# Altium integrated library ST Memory EEPROM Flash.IntLib: 1183 symbols (part 29 of 29)
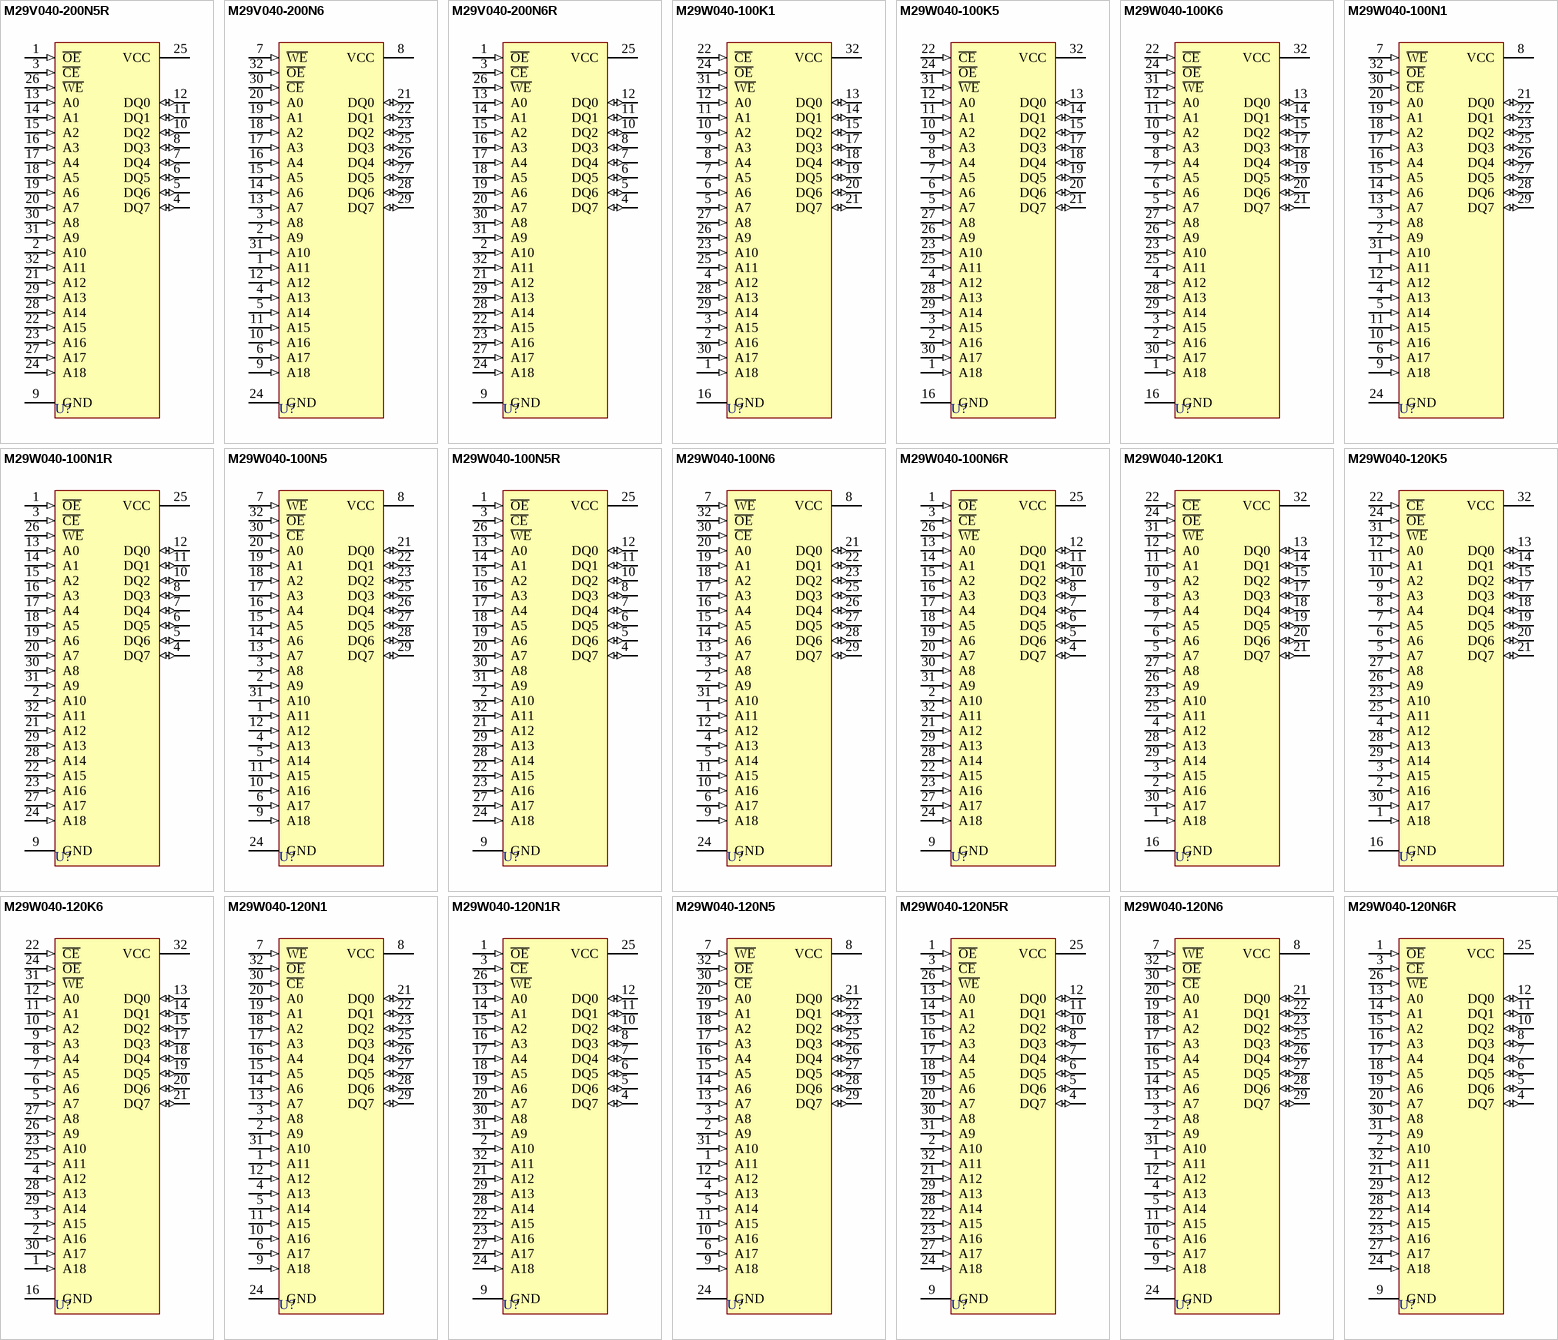
[diagram p109: symbols M29V040-200N5R to M29W040-120N6R]

## M29V040-200N6
designator U?
Low-Voltage Single Supply 4 Mbit (512Kb x8, Sector Erase) Flash Memory; Published: 24-Aug-2001; LatestRevisionDate: 06-Jun-2005; LatestRevisionNote: Stylized 3D Model Added.; DatasheetVersion: Mar-1996; PackageVersion: Mar-1999; PackageReference: TSOP32; Publisher: Altium Limited; PackageDescription: Shrink Small Outline, Plastic, Thin; 32 Leads; Body Width 18.4 mm; Pitch 0.5 mm; Code_JEDEC: MO-142-BD; ComponentLink1Description: Manufacturer Link; ComponentLink1URL: http://www.st.com/
footprint TSOP32 (Shrink Small Outline, Plastic, Thin; 32 Leads; Body Width 18.4 mm; Pitch 0.5 mm)
3D model TSOP32 (Shrink Small Outline, Plastic, Thin; 32 Leads; Body Width 18.4 mm; Pitch 0.5 mm)
pins: 1 A11 (in), 2 A9 (in), 3 A8 (in), 4 A13 (in), 5 A14 (in), 6 A17 (in), 7 ~{WE} (in), 8 VCC (power), 9 A18 (in), 10 A16 (in), 11 A15 (in), 12 A12 (in), 13 A7 (in), 14 A6 (in), 15 A5 (in), 16 A4 (in), 17 A3 (in), 18 A2 (in), 19 A1 (in), 20 A0 (in), 21 DQ0 (io), 22 DQ1 (io), 23 DQ2 (io), 24 GND (power), 25 DQ3 (io), 26 DQ4 (io), 27 DQ5 (io), 28 DQ6 (io), 29 DQ7 (io), 30 ~{CE} (in), 31 A10 (in), 32 ~{OE} (in)

## M29V040-200N6R
designator U?
Low-Voltage Single Supply 4 Mbit (512Kb x8, Sector Erase) Flash Memory; Published: 24-Aug-2001; LatestRevisionDate: 06-Jun-2005; LatestRevisionNote: Stylized 3D Model Added.; DatasheetVersion: Mar-1996; PackageVersion: Mar-1999; PackageReference: TSOP32; Publisher: Altium Limited; PackageDescription: Shrink Small Outline, Plastic, Thin; 32 Leads; Body Width 18.4 mm; Pitch 0.5 mm; Code_JEDEC: MO-142-BD; ComponentLink1Description: Manufacturer Link; ComponentLink1URL: http://www.st.com/
footprint TSOP32 (Shrink Small Outline, Plastic, Thin; 32 Leads; Body Width 18.4 mm; Pitch 0.5 mm)
3D model TSOP32 (Shrink Small Outline, Plastic, Thin; 32 Leads; Body Width 18.4 mm; Pitch 0.5 mm)
pins: 1 ~{OE} (in), 2 A10 (in), 3 ~{CE} (in), 4 DQ7 (io), 5 DQ6 (io), 6 DQ5 (io), 7 DQ4 (io), 8 DQ3 (io), 9 GND (power), 10 DQ2 (io), 11 DQ1 (io), 12 DQ0 (io), 13 A0 (in), 14 A1 (in), 15 A2 (in), 16 A3 (in), 17 A4 (in), 18 A5 (in), 19 A6 (in), 20 A7 (in), 21 A12 (in), 22 A15 (in), 23 A16 (in), 24 A18 (in), 25 VCC (power), 26 ~{WE} (in), 27 A17 (in), 28 A14 (in), 29 A13 (in), 30 A8 (in), 31 A9 (in), 32 A11 (in)

## M29W040-100K1
designator U?
4 Mbit (512Kb x8, Uniform Block) Low-Voltage Single Supply Flash Memory; Published: 24-Aug-2001; LatestRevisionDate: 06-Jun-2005; LatestRevisionNote: Stylized 3D Model Added.; DatasheetVersion: Nov-1999; PackageVersion: Jun-1998; PackageReference: PLCC32; Publisher: Altium Limited; PackageDescription: Leaded Chip Carrier; 32 Leads; Body 11.5 x 14 mm; Code_JEDEC: MS-016-AE; Code_IPC: PLCC/R-32; ComponentLink1Description: Manufacturer Link; ComponentLink1URL: http://www.st.com/
footprint PLCC32 (Leaded Chip Carrier; 32 Leads; Body 11.5 x 14 mm)
3D model M29W040-PLCC32 (Leaded Chip Carrier; 32 Leads; Body 11.5 x 14 mm)
pins: 1 A18 (in), 2 A16 (in), 3 A15 (in), 4 A12 (in), 5 A7 (in), 6 A6 (in), 7 A5 (in), 8 A4 (in), 9 A3 (in), 10 A2 (in), 11 A1 (in), 12 A0 (in), 13 DQ0 (io), 14 DQ1 (io), 15 DQ2 (io), 16 GND (power), 17 DQ3 (io), 18 DQ4 (io), 19 DQ5 (io), 20 DQ6 (io), 21 DQ7 (io), 22 ~{CE} (in), 23 A10 (in), 24 ~{OE} (in), 25 A11 (in), 26 A9 (in), 27 A8 (in), 28 A13 (in), 29 A14 (in), 30 A17 (in), 31 ~{WE} (in), 32 VCC (power)

## M29W040-100K5
designator U?
4 Mbit (512Kb x8, Uniform Block) Low-Voltage Single Supply Flash Memory; Published: 24-Aug-2001; LatestRevisionDate: 06-Jun-2005; LatestRevisionNote: Stylized 3D Model Added.; DatasheetVersion: Nov-1999; PackageVersion: Jun-1998; PackageReference: PLCC32; Publisher: Altium Limited; PackageDescription: Leaded Chip Carrier; 32 Leads; Body 11.5 x 14 mm; Code_JEDEC: MS-016-AE; Code_IPC: PLCC/R-32; ComponentLink1Description: Manufacturer Link; ComponentLink1URL: http://www.st.com/
footprint PLCC32 (Leaded Chip Carrier; 32 Leads; Body 11.5 x 14 mm)
3D model M29W040-PLCC32 (Leaded Chip Carrier; 32 Leads; Body 11.5 x 14 mm)
pins: 1 A18 (in), 2 A16 (in), 3 A15 (in), 4 A12 (in), 5 A7 (in), 6 A6 (in), 7 A5 (in), 8 A4 (in), 9 A3 (in), 10 A2 (in), 11 A1 (in), 12 A0 (in), 13 DQ0 (io), 14 DQ1 (io), 15 DQ2 (io), 16 GND (power), 17 DQ3 (io), 18 DQ4 (io), 19 DQ5 (io), 20 DQ6 (io), 21 DQ7 (io), 22 ~{CE} (in), 23 A10 (in), 24 ~{OE} (in), 25 A11 (in), 26 A9 (in), 27 A8 (in), 28 A13 (in), 29 A14 (in), 30 A17 (in), 31 ~{WE} (in), 32 VCC (power)

## M29W040-100K6
designator U?
4 Mbit (512Kb x8, Uniform Block) Low-Voltage Single Supply Flash Memory; Published: 24-Aug-2001; LatestRevisionDate: 06-Jun-2005; LatestRevisionNote: Stylized 3D Model Added.; DatasheetVersion: Nov-1999; PackageVersion: Jun-1998; PackageReference: PLCC32; Publisher: Altium Limited; PackageDescription: Leaded Chip Carrier; 32 Leads; Body 11.5 x 14 mm; Code_JEDEC: MS-016-AE; Code_IPC: PLCC/R-32; ComponentLink1Description: Manufacturer Link; ComponentLink1URL: http://www.st.com/
footprint PLCC32 (Leaded Chip Carrier; 32 Leads; Body 11.5 x 14 mm)
3D model M29W040-PLCC32 (Leaded Chip Carrier; 32 Leads; Body 11.5 x 14 mm)
pins: 1 A18 (in), 2 A16 (in), 3 A15 (in), 4 A12 (in), 5 A7 (in), 6 A6 (in), 7 A5 (in), 8 A4 (in), 9 A3 (in), 10 A2 (in), 11 A1 (in), 12 A0 (in), 13 DQ0 (io), 14 DQ1 (io), 15 DQ2 (io), 16 GND (power), 17 DQ3 (io), 18 DQ4 (io), 19 DQ5 (io), 20 DQ6 (io), 21 DQ7 (io), 22 ~{CE} (in), 23 A10 (in), 24 ~{OE} (in), 25 A11 (in), 26 A9 (in), 27 A8 (in), 28 A13 (in), 29 A14 (in), 30 A17 (in), 31 ~{WE} (in), 32 VCC (power)

## M29W040-100N1
designator U?
4 Mbit (512Kb x8, Uniform Block) Low-Voltage Single Supply Flash Memory; Published: 24-Aug-2001; LatestRevisionDate: 06-Jun-2005; LatestRevisionNote: Stylized 3D Model Added.; DatasheetVersion: Nov-1999; PackageVersion: Mar-1999; PackageReference: TSOP32; Publisher: Altium Limited; PackageDescription: Shrink Small Outline, Plastic, Thin; 32 Leads; Body Width 18.4 mm; Pitch 0.5 mm; Code_JEDEC: MO-142-BD; ComponentLink1Description: Manufacturer Link; ComponentLink1URL: http://www.st.com/
footprint TSOP32 (Shrink Small Outline, Plastic, Thin; 32 Leads; Body Width 18.4 mm; Pitch 0.5 mm)
3D model TSOP32 (Shrink Small Outline, Plastic, Thin; 32 Leads; Body Width 18.4 mm; Pitch 0.5 mm)
pins: 1 A11 (in), 2 A9 (in), 3 A8 (in), 4 A13 (in), 5 A14 (in), 6 A17 (in), 7 ~{WE} (in), 8 VCC (power), 9 A18 (in), 10 A16 (in), 11 A15 (in), 12 A12 (in), 13 A7 (in), 14 A6 (in), 15 A5 (in), 16 A4 (in), 17 A3 (in), 18 A2 (in), 19 A1 (in), 20 A0 (in), 21 DQ0 (io), 22 DQ1 (io), 23 DQ2 (io), 24 GND (power), 25 DQ3 (io), 26 DQ4 (io), 27 DQ5 (io), 28 DQ6 (io), 29 DQ7 (io), 30 ~{CE} (in), 31 A10 (in), 32 ~{OE} (in)

## M29W040-100N1R
designator U?
4 Mbit (512Kb x8, Uniform Block) Low-Voltage Single Supply Flash Memory; Published: 24-Aug-2001; LatestRevisionDate: 06-Jun-2005; LatestRevisionNote: Stylized 3D Model Added.; DatasheetVersion: Nov-1999; PackageVersion: Mar-1999; PackageReference: TSOP32; Publisher: Altium Limited; PackageDescription: Shrink Small Outline, Plastic, Thin; 32 Leads; Body Width 18.4 mm; Pitch 0.5 mm; Code_JEDEC: MO-142-BD; ComponentLink1Description: Manufacturer Link; ComponentLink1URL: http://www.st.com/
footprint TSOP32 (Shrink Small Outline, Plastic, Thin; 32 Leads; Body Width 18.4 mm; Pitch 0.5 mm)
3D model TSOP32 (Shrink Small Outline, Plastic, Thin; 32 Leads; Body Width 18.4 mm; Pitch 0.5 mm)
pins: 1 ~{OE} (in), 2 A10 (in), 3 ~{CE} (in), 4 DQ7 (io), 5 DQ6 (io), 6 DQ5 (io), 7 DQ4 (io), 8 DQ3 (io), 9 GND (power), 10 DQ2 (io), 11 DQ1 (io), 12 DQ0 (io), 13 A0 (in), 14 A1 (in), 15 A2 (in), 16 A3 (in), 17 A4 (in), 18 A5 (in), 19 A6 (in), 20 A7 (in), 21 A12 (in), 22 A15 (in), 23 A16 (in), 24 A18 (in), 25 VCC (power), 26 ~{WE} (in), 27 A17 (in), 28 A14 (in), 29 A13 (in), 30 A8 (in), 31 A9 (in), 32 A11 (in)

## M29W040-100N5
designator U?
4 Mbit (512Kb x8, Uniform Block) Low-Voltage Single Supply Flash Memory; Published: 24-Aug-2001; LatestRevisionDate: 06-Jun-2005; LatestRevisionNote: Stylized 3D Model Added.; DatasheetVersion: Nov-1999; PackageVersion: Mar-1999; PackageReference: TSOP32; Publisher: Altium Limited; PackageDescription: Shrink Small Outline, Plastic, Thin; 32 Leads; Body Width 18.4 mm; Pitch 0.5 mm; Code_JEDEC: MO-142-BD; ComponentLink1Description: Manufacturer Link; ComponentLink1URL: http://www.st.com/
footprint TSOP32 (Shrink Small Outline, Plastic, Thin; 32 Leads; Body Width 18.4 mm; Pitch 0.5 mm)
3D model TSOP32 (Shrink Small Outline, Plastic, Thin; 32 Leads; Body Width 18.4 mm; Pitch 0.5 mm)
pins: 1 A11 (in), 2 A9 (in), 3 A8 (in), 4 A13 (in), 5 A14 (in), 6 A17 (in), 7 ~{WE} (in), 8 VCC (power), 9 A18 (in), 10 A16 (in), 11 A15 (in), 12 A12 (in), 13 A7 (in), 14 A6 (in), 15 A5 (in), 16 A4 (in), 17 A3 (in), 18 A2 (in), 19 A1 (in), 20 A0 (in), 21 DQ0 (io), 22 DQ1 (io), 23 DQ2 (io), 24 GND (power), 25 DQ3 (io), 26 DQ4 (io), 27 DQ5 (io), 28 DQ6 (io), 29 DQ7 (io), 30 ~{CE} (in), 31 A10 (in), 32 ~{OE} (in)

## M29W040-100N5R
designator U?
4 Mbit (512Kb x8, Uniform Block) Low-Voltage Single Supply Flash Memory; Published: 24-Aug-2001; LatestRevisionDate: 06-Jun-2005; LatestRevisionNote: Stylized 3D Model Added.; DatasheetVersion: Nov-1999; PackageVersion: Mar-1999; PackageReference: TSOP32; Publisher: Altium Limited; PackageDescription: Shrink Small Outline, Plastic, Thin; 32 Leads; Body Width 18.4 mm; Pitch 0.5 mm; Code_JEDEC: MO-142-BD; ComponentLink1Description: Manufacturer Link; ComponentLink1URL: http://www.st.com/
footprint TSOP32 (Shrink Small Outline, Plastic, Thin; 32 Leads; Body Width 18.4 mm; Pitch 0.5 mm)
3D model TSOP32 (Shrink Small Outline, Plastic, Thin; 32 Leads; Body Width 18.4 mm; Pitch 0.5 mm)
pins: 1 ~{OE} (in), 2 A10 (in), 3 ~{CE} (in), 4 DQ7 (io), 5 DQ6 (io), 6 DQ5 (io), 7 DQ4 (io), 8 DQ3 (io), 9 GND (power), 10 DQ2 (io), 11 DQ1 (io), 12 DQ0 (io), 13 A0 (in), 14 A1 (in), 15 A2 (in), 16 A3 (in), 17 A4 (in), 18 A5 (in), 19 A6 (in), 20 A7 (in), 21 A12 (in), 22 A15 (in), 23 A16 (in), 24 A18 (in), 25 VCC (power), 26 ~{WE} (in), 27 A17 (in), 28 A14 (in), 29 A13 (in), 30 A8 (in), 31 A9 (in), 32 A11 (in)

## M29W040-100N6
designator U?
4 Mbit (512Kb x8, Uniform Block) Low-Voltage Single Supply Flash Memory; Published: 24-Aug-2001; LatestRevisionDate: 06-Jun-2005; LatestRevisionNote: Stylized 3D Model Added.; DatasheetVersion: Nov-1999; PackageVersion: Mar-1999; PackageReference: TSOP32; Publisher: Altium Limited; PackageDescription: Shrink Small Outline, Plastic, Thin; 32 Leads; Body Width 18.4 mm; Pitch 0.5 mm; Code_JEDEC: MO-142-BD; ComponentLink1Description: Manufacturer Link; ComponentLink1URL: http://www.st.com/
footprint TSOP32 (Shrink Small Outline, Plastic, Thin; 32 Leads; Body Width 18.4 mm; Pitch 0.5 mm)
3D model TSOP32 (Shrink Small Outline, Plastic, Thin; 32 Leads; Body Width 18.4 mm; Pitch 0.5 mm)
pins: 1 A11 (in), 2 A9 (in), 3 A8 (in), 4 A13 (in), 5 A14 (in), 6 A17 (in), 7 ~{WE} (in), 8 VCC (power), 9 A18 (in), 10 A16 (in), 11 A15 (in), 12 A12 (in), 13 A7 (in), 14 A6 (in), 15 A5 (in), 16 A4 (in), 17 A3 (in), 18 A2 (in), 19 A1 (in), 20 A0 (in), 21 DQ0 (io), 22 DQ1 (io), 23 DQ2 (io), 24 GND (power), 25 DQ3 (io), 26 DQ4 (io), 27 DQ5 (io), 28 DQ6 (io), 29 DQ7 (io), 30 ~{CE} (in), 31 A10 (in), 32 ~{OE} (in)

## M29W040-100N6R
designator U?
4 Mbit (512Kb x8, Uniform Block) Low-Voltage Single Supply Flash Memory; Published: 24-Aug-2001; LatestRevisionDate: 06-Jun-2005; LatestRevisionNote: Stylized 3D Model Added.; DatasheetVersion: Nov-1999; PackageVersion: Mar-1999; PackageReference: TSOP32; Publisher: Altium Limited; PackageDescription: Shrink Small Outline, Plastic, Thin; 32 Leads; Body Width 18.4 mm; Pitch 0.5 mm; Code_JEDEC: MO-142-BD; ComponentLink1Description: Manufacturer Link; ComponentLink1URL: http://www.st.com/
footprint TSOP32 (Shrink Small Outline, Plastic, Thin; 32 Leads; Body Width 18.4 mm; Pitch 0.5 mm)
3D model TSOP32 (Shrink Small Outline, Plastic, Thin; 32 Leads; Body Width 18.4 mm; Pitch 0.5 mm)
pins: 1 ~{OE} (in), 2 A10 (in), 3 ~{CE} (in), 4 DQ7 (io), 5 DQ6 (io), 6 DQ5 (io), 7 DQ4 (io), 8 DQ3 (io), 9 GND (power), 10 DQ2 (io), 11 DQ1 (io), 12 DQ0 (io), 13 A0 (in), 14 A1 (in), 15 A2 (in), 16 A3 (in), 17 A4 (in), 18 A5 (in), 19 A6 (in), 20 A7 (in), 21 A12 (in), 22 A15 (in), 23 A16 (in), 24 A18 (in), 25 VCC (power), 26 ~{WE} (in), 27 A17 (in), 28 A14 (in), 29 A13 (in), 30 A8 (in), 31 A9 (in), 32 A11 (in)

## M29W040-120K1
designator U?
4 Mbit (512Kb x8, Uniform Block) Low-Voltage Single Supply Flash Memory; Published: 24-Aug-2001; LatestRevisionDate: 06-Jun-2005; LatestRevisionNote: Stylized 3D Model Added.; DatasheetVersion: Nov-1999; PackageVersion: Jun-1998; PackageReference: PLCC32; Publisher: Altium Limited; PackageDescription: Leaded Chip Carrier; 32 Leads; Body 11.5 x 14 mm; Code_JEDEC: MS-016-AE; Code_IPC: PLCC/R-32; ComponentLink1Description: Manufacturer Link; ComponentLink1URL: http://www.st.com/
footprint PLCC32 (Leaded Chip Carrier; 32 Leads; Body 11.5 x 14 mm)
3D model M29W040-PLCC32 (Leaded Chip Carrier; 32 Leads; Body 11.5 x 14 mm)
pins: 1 A18 (in), 2 A16 (in), 3 A15 (in), 4 A12 (in), 5 A7 (in), 6 A6 (in), 7 A5 (in), 8 A4 (in), 9 A3 (in), 10 A2 (in), 11 A1 (in), 12 A0 (in), 13 DQ0 (io), 14 DQ1 (io), 15 DQ2 (io), 16 GND (power), 17 DQ3 (io), 18 DQ4 (io), 19 DQ5 (io), 20 DQ6 (io), 21 DQ7 (io), 22 ~{CE} (in), 23 A10 (in), 24 ~{OE} (in), 25 A11 (in), 26 A9 (in), 27 A8 (in), 28 A13 (in), 29 A14 (in), 30 A17 (in), 31 ~{WE} (in), 32 VCC (power)

## M29W040-120K5
designator U?
4 Mbit (512Kb x8, Uniform Block) Low-Voltage Single Supply Flash Memory; Published: 24-Aug-2001; LatestRevisionDate: 06-Jun-2005; LatestRevisionNote: Stylized 3D Model Added.; DatasheetVersion: Nov-1999; PackageVersion: Jun-1998; PackageReference: PLCC32; Publisher: Altium Limited; PackageDescription: Leaded Chip Carrier; 32 Leads; Body 11.5 x 14 mm; Code_JEDEC: MS-016-AE; Code_IPC: PLCC/R-32; ComponentLink1Description: Manufacturer Link; ComponentLink1URL: http://www.st.com/
footprint PLCC32 (Leaded Chip Carrier; 32 Leads; Body 11.5 x 14 mm)
3D model M29W040-PLCC32 (Leaded Chip Carrier; 32 Leads; Body 11.5 x 14 mm)
pins: 1 A18 (in), 2 A16 (in), 3 A15 (in), 4 A12 (in), 5 A7 (in), 6 A6 (in), 7 A5 (in), 8 A4 (in), 9 A3 (in), 10 A2 (in), 11 A1 (in), 12 A0 (in), 13 DQ0 (io), 14 DQ1 (io), 15 DQ2 (io), 16 GND (power), 17 DQ3 (io), 18 DQ4 (io), 19 DQ5 (io), 20 DQ6 (io), 21 DQ7 (io), 22 ~{CE} (in), 23 A10 (in), 24 ~{OE} (in), 25 A11 (in), 26 A9 (in), 27 A8 (in), 28 A13 (in), 29 A14 (in), 30 A17 (in), 31 ~{WE} (in), 32 VCC (power)

## M29W040-120K6
designator U?
4 Mbit (512Kb x8, Uniform Block) Low-Voltage Single Supply Flash Memory; Published: 24-Aug-2001; LatestRevisionDate: 06-Jun-2005; LatestRevisionNote: Stylized 3D Model Added.; DatasheetVersion: Nov-1999; PackageVersion: Jun-1998; PackageReference: PLCC32; Publisher: Altium Limited; PackageDescription: Leaded Chip Carrier; 32 Leads; Body 11.5 x 14 mm; Code_JEDEC: MS-016-AE; Code_IPC: PLCC/R-32; ComponentLink1Description: Manufacturer Link; ComponentLink1URL: http://www.st.com/
footprint PLCC32 (Leaded Chip Carrier; 32 Leads; Body 11.5 x 14 mm)
3D model M29W040-PLCC32 (Leaded Chip Carrier; 32 Leads; Body 11.5 x 14 mm)
pins: 1 A18 (in), 2 A16 (in), 3 A15 (in), 4 A12 (in), 5 A7 (in), 6 A6 (in), 7 A5 (in), 8 A4 (in), 9 A3 (in), 10 A2 (in), 11 A1 (in), 12 A0 (in), 13 DQ0 (io), 14 DQ1 (io), 15 DQ2 (io), 16 GND (power), 17 DQ3 (io), 18 DQ4 (io), 19 DQ5 (io), 20 DQ6 (io), 21 DQ7 (io), 22 ~{CE} (in), 23 A10 (in), 24 ~{OE} (in), 25 A11 (in), 26 A9 (in), 27 A8 (in), 28 A13 (in), 29 A14 (in), 30 A17 (in), 31 ~{WE} (in), 32 VCC (power)

## M29W040-120N1
designator U?
4 Mbit (512Kb x8, Uniform Block) Low-Voltage Single Supply Flash Memory; Published: 24-Aug-2001; LatestRevisionDate: 06-Jun-2005; LatestRevisionNote: Stylized 3D Model Added.; DatasheetVersion: Nov-1999; PackageVersion: Mar-1999; PackageReference: TSOP32; Publisher: Altium Limited; PackageDescription: Shrink Small Outline, Plastic, Thin; 32 Leads; Body Width 18.4 mm; Pitch 0.5 mm; Code_JEDEC: MO-142-BD; ComponentLink1Description: Manufacturer Link; ComponentLink1URL: http://www.st.com/
footprint TSOP32 (Shrink Small Outline, Plastic, Thin; 32 Leads; Body Width 18.4 mm; Pitch 0.5 mm)
3D model TSOP32 (Shrink Small Outline, Plastic, Thin; 32 Leads; Body Width 18.4 mm; Pitch 0.5 mm)
pins: 1 A11 (in), 2 A9 (in), 3 A8 (in), 4 A13 (in), 5 A14 (in), 6 A17 (in), 7 ~{WE} (in), 8 VCC (power), 9 A18 (in), 10 A16 (in), 11 A15 (in), 12 A12 (in), 13 A7 (in), 14 A6 (in), 15 A5 (in), 16 A4 (in), 17 A3 (in), 18 A2 (in), 19 A1 (in), 20 A0 (in), 21 DQ0 (io), 22 DQ1 (io), 23 DQ2 (io), 24 GND (power), 25 DQ3 (io), 26 DQ4 (io), 27 DQ5 (io), 28 DQ6 (io), 29 DQ7 (io), 30 ~{CE} (in), 31 A10 (in), 32 ~{OE} (in)

## M29W040-120N1R
designator U?
4 Mbit (512Kb x8, Uniform Block) Low-Voltage Single Supply Flash Memory; Published: 24-Aug-2001; LatestRevisionDate: 06-Jun-2005; LatestRevisionNote: Stylized 3D Model Added.; DatasheetVersion: Nov-1999; PackageVersion: Mar-1999; PackageReference: TSOP32; Publisher: Altium Limited; PackageDescription: Shrink Small Outline, Plastic, Thin; 32 Leads; Body Width 18.4 mm; Pitch 0.5 mm; Code_JEDEC: MO-142-BD; ComponentLink1Description: Manufacturer Link; ComponentLink1URL: http://www.st.com/
footprint TSOP32 (Shrink Small Outline, Plastic, Thin; 32 Leads; Body Width 18.4 mm; Pitch 0.5 mm)
3D model TSOP32 (Shrink Small Outline, Plastic, Thin; 32 Leads; Body Width 18.4 mm; Pitch 0.5 mm)
pins: 1 ~{OE} (in), 2 A10 (in), 3 ~{CE} (in), 4 DQ7 (io), 5 DQ6 (io), 6 DQ5 (io), 7 DQ4 (io), 8 DQ3 (io), 9 GND (power), 10 DQ2 (io), 11 DQ1 (io), 12 DQ0 (io), 13 A0 (in), 14 A1 (in), 15 A2 (in), 16 A3 (in), 17 A4 (in), 18 A5 (in), 19 A6 (in), 20 A7 (in), 21 A12 (in), 22 A15 (in), 23 A16 (in), 24 A18 (in), 25 VCC (power), 26 ~{WE} (in), 27 A17 (in), 28 A14 (in), 29 A13 (in), 30 A8 (in), 31 A9 (in), 32 A11 (in)

## M29W040-120N5
designator U?
4 Mbit (512Kb x8, Uniform Block) Low-Voltage Single Supply Flash Memory; Published: 24-Aug-2001; LatestRevisionDate: 06-Jun-2005; LatestRevisionNote: Stylized 3D Model Added.; DatasheetVersion: Nov-1999; PackageVersion: Mar-1999; PackageReference: TSOP32; Publisher: Altium Limited; PackageDescription: Shrink Small Outline, Plastic, Thin; 32 Leads; Body Width 18.4 mm; Pitch 0.5 mm; Code_JEDEC: MO-142-BD; ComponentLink1Description: Manufacturer Link; ComponentLink1URL: http://www.st.com/
footprint TSOP32 (Shrink Small Outline, Plastic, Thin; 32 Leads; Body Width 18.4 mm; Pitch 0.5 mm)
3D model TSOP32 (Shrink Small Outline, Plastic, Thin; 32 Leads; Body Width 18.4 mm; Pitch 0.5 mm)
pins: 1 A11 (in), 2 A9 (in), 3 A8 (in), 4 A13 (in), 5 A14 (in), 6 A17 (in), 7 ~{WE} (in), 8 VCC (power), 9 A18 (in), 10 A16 (in), 11 A15 (in), 12 A12 (in), 13 A7 (in), 14 A6 (in), 15 A5 (in), 16 A4 (in), 17 A3 (in), 18 A2 (in), 19 A1 (in), 20 A0 (in), 21 DQ0 (io), 22 DQ1 (io), 23 DQ2 (io), 24 GND (power), 25 DQ3 (io), 26 DQ4 (io), 27 DQ5 (io), 28 DQ6 (io), 29 DQ7 (io), 30 ~{CE} (in), 31 A10 (in), 32 ~{OE} (in)

## M29W040-120N5R
designator U?
4 Mbit (512Kb x8, Uniform Block) Low-Voltage Single Supply Flash Memory; Published: 24-Aug-2001; LatestRevisionDate: 06-Jun-2005; LatestRevisionNote: Stylized 3D Model Added.; DatasheetVersion: Nov-1999; PackageVersion: Mar-1999; PackageReference: TSOP32; Publisher: Altium Limited; PackageDescription: Shrink Small Outline, Plastic, Thin; 32 Leads; Body Width 18.4 mm; Pitch 0.5 mm; Code_JEDEC: MO-142-BD; ComponentLink1Description: Manufacturer Link; ComponentLink1URL: http://www.st.com/
footprint TSOP32 (Shrink Small Outline, Plastic, Thin; 32 Leads; Body Width 18.4 mm; Pitch 0.5 mm)
3D model TSOP32 (Shrink Small Outline, Plastic, Thin; 32 Leads; Body Width 18.4 mm; Pitch 0.5 mm)
pins: 1 ~{OE} (in), 2 A10 (in), 3 ~{CE} (in), 4 DQ7 (io), 5 DQ6 (io), 6 DQ5 (io), 7 DQ4 (io), 8 DQ3 (io), 9 GND (power), 10 DQ2 (io), 11 DQ1 (io), 12 DQ0 (io), 13 A0 (in), 14 A1 (in), 15 A2 (in), 16 A3 (in), 17 A4 (in), 18 A5 (in), 19 A6 (in), 20 A7 (in), 21 A12 (in), 22 A15 (in), 23 A16 (in), 24 A18 (in), 25 VCC (power), 26 ~{WE} (in), 27 A17 (in), 28 A14 (in), 29 A13 (in), 30 A8 (in), 31 A9 (in), 32 A11 (in)

## M29W040-120N6
designator U?
4 Mbit (512Kb x8, Uniform Block) Low-Voltage Single Supply Flash Memory; Published: 24-Aug-2001; LatestRevisionDate: 06-Jun-2005; LatestRevisionNote: Stylized 3D Model Added.; DatasheetVersion: Nov-1999; PackageVersion: Mar-1999; PackageReference: TSOP32; Publisher: Altium Limited; PackageDescription: Shrink Small Outline, Plastic, Thin; 32 Leads; Body Width 18.4 mm; Pitch 0.5 mm; Code_JEDEC: MO-142-BD; ComponentLink1Description: Manufacturer Link; ComponentLink1URL: http://www.st.com/
footprint TSOP32 (Shrink Small Outline, Plastic, Thin; 32 Leads; Body Width 18.4 mm; Pitch 0.5 mm)
3D model TSOP32 (Shrink Small Outline, Plastic, Thin; 32 Leads; Body Width 18.4 mm; Pitch 0.5 mm)
pins: 1 A11 (in), 2 A9 (in), 3 A8 (in), 4 A13 (in), 5 A14 (in), 6 A17 (in), 7 ~{WE} (in), 8 VCC (power), 9 A18 (in), 10 A16 (in), 11 A15 (in), 12 A12 (in), 13 A7 (in), 14 A6 (in), 15 A5 (in), 16 A4 (in), 17 A3 (in), 18 A2 (in), 19 A1 (in), 20 A0 (in), 21 DQ0 (io), 22 DQ1 (io), 23 DQ2 (io), 24 GND (power), 25 DQ3 (io), 26 DQ4 (io), 27 DQ5 (io), 28 DQ6 (io), 29 DQ7 (io), 30 ~{CE} (in), 31 A10 (in), 32 ~{OE} (in)

## M29W040-120N6R
designator U?
4 Mbit (512Kb x8, Uniform Block) Low-Voltage Single Supply Flash Memory; Published: 24-Aug-2001; LatestRevisionDate: 06-Jun-2005; LatestRevisionNote: Stylized 3D Model Added.; DatasheetVersion: Nov-1999; PackageVersion: Mar-1999; PackageReference: TSOP32; Publisher: Altium Limited; PackageDescription: Shrink Small Outline, Plastic, Thin; 32 Leads; Body Width 18.4 mm; Pitch 0.5 mm; Code_JEDEC: MO-142-BD; ComponentLink1Description: Manufacturer Link; ComponentLink1URL: http://www.st.com/
footprint TSOP32 (Shrink Small Outline, Plastic, Thin; 32 Leads; Body Width 18.4 mm; Pitch 0.5 mm)
3D model TSOP32 (Shrink Small Outline, Plastic, Thin; 32 Leads; Body Width 18.4 mm; Pitch 0.5 mm)
pins: 1 ~{OE} (in), 2 A10 (in), 3 ~{CE} (in), 4 DQ7 (io), 5 DQ6 (io), 6 DQ5 (io), 7 DQ4 (io), 8 DQ3 (io), 9 GND (power), 10 DQ2 (io), 11 DQ1 (io), 12 DQ0 (io), 13 A0 (in), 14 A1 (in), 15 A2 (in), 16 A3 (in), 17 A4 (in), 18 A5 (in), 19 A6 (in), 20 A7 (in), 21 A12 (in), 22 A15 (in), 23 A16 (in), 24 A18 (in), 25 VCC (power), 26 ~{WE} (in), 27 A17 (in), 28 A14 (in), 29 A13 (in), 30 A8 (in), 31 A9 (in), 32 A11 (in)

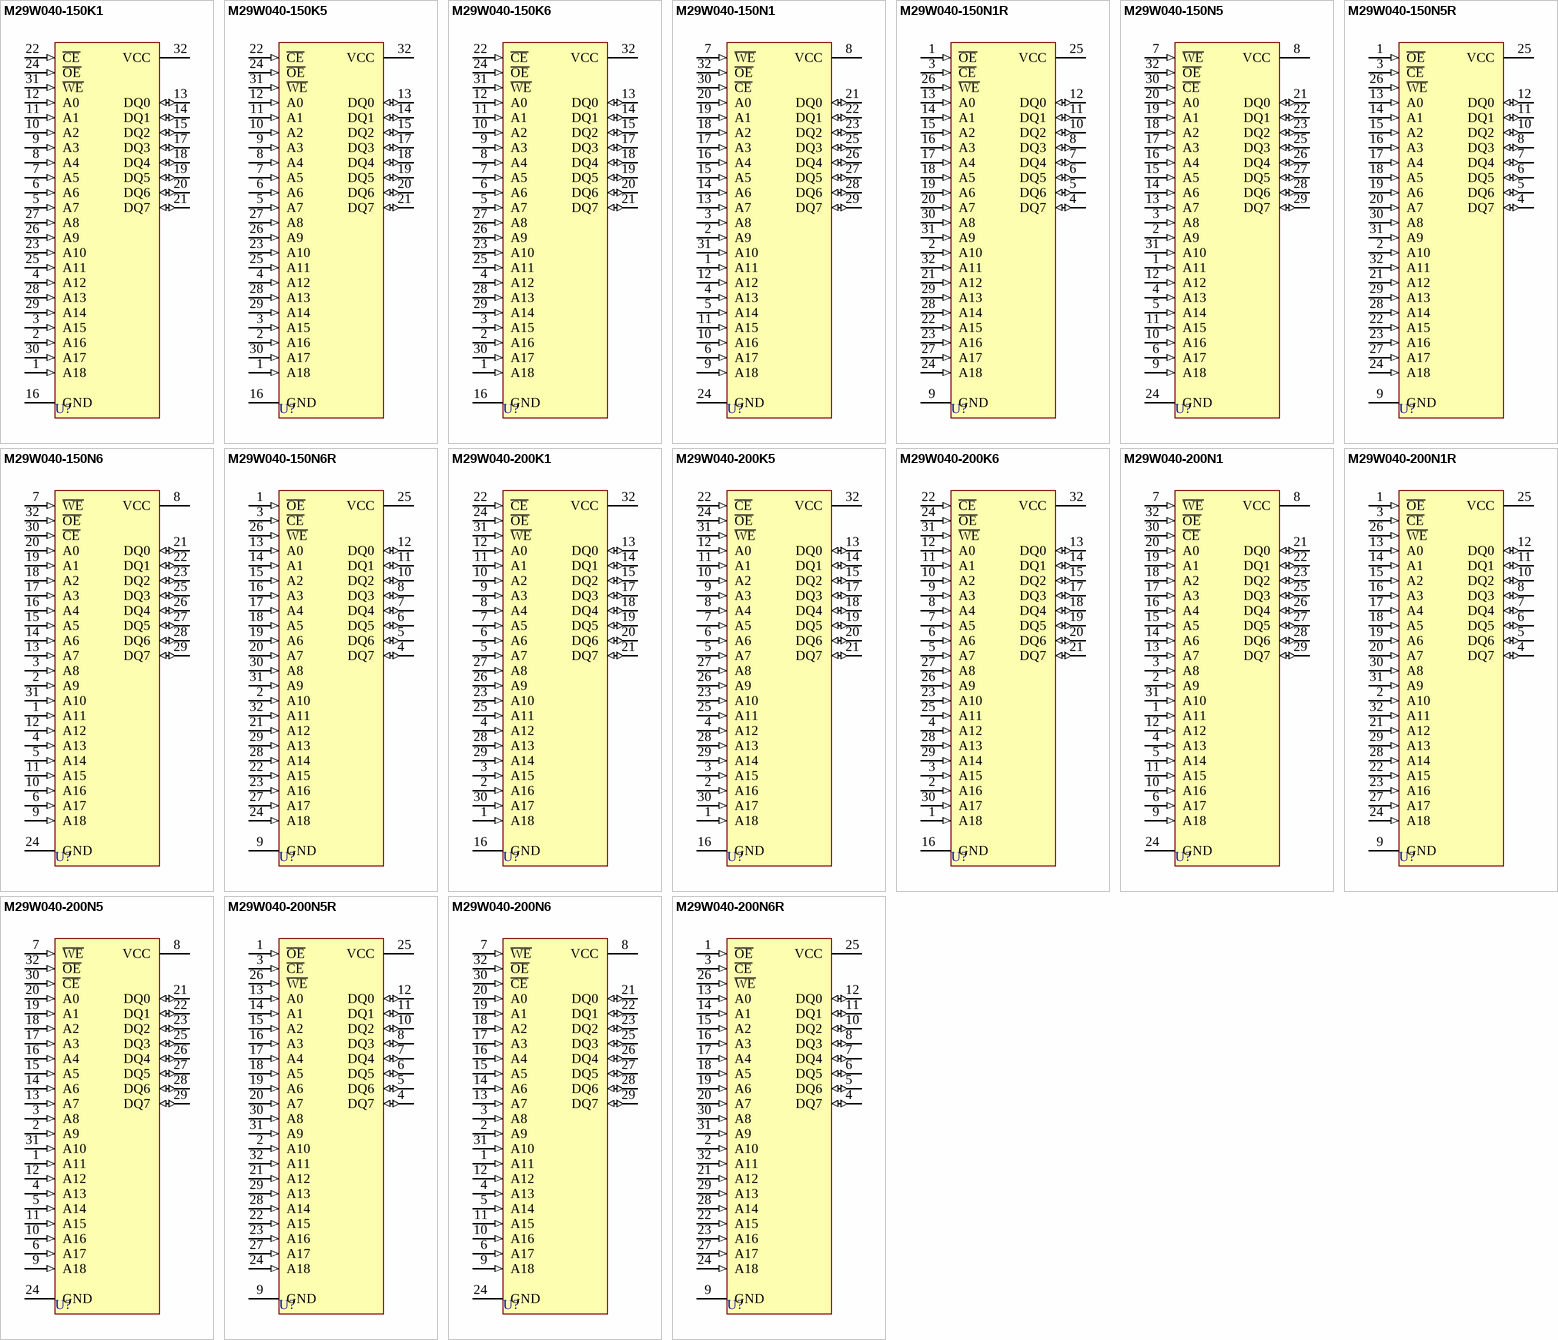
[diagram p81: symbols M29W040-150K1 to M29W040-200N6R]

## M29W040-150K1
designator U?
4 Mbit (512Kb x8, Uniform Block) Low-Voltage Single Supply Flash Memory; Published: 24-Aug-2001; LatestRevisionDate: 06-Jun-2005; LatestRevisionNote: Stylized 3D Model Added.; DatasheetVersion: Nov-1999; PackageVersion: Jun-1998; PackageReference: PLCC32; Publisher: Altium Limited; PackageDescription: Leaded Chip Carrier; 32 Leads; Body 11.5 x 14 mm; Code_JEDEC: MS-016-AE; Code_IPC: PLCC/R-32; ComponentLink1Description: Manufacturer Link; ComponentLink1URL: http://www.st.com/
footprint PLCC32 (Leaded Chip Carrier; 32 Leads; Body 11.5 x 14 mm)
3D model M29W040-PLCC32 (Leaded Chip Carrier; 32 Leads; Body 11.5 x 14 mm)
pins: 1 A18 (in), 2 A16 (in), 3 A15 (in), 4 A12 (in), 5 A7 (in), 6 A6 (in), 7 A5 (in), 8 A4 (in), 9 A3 (in), 10 A2 (in), 11 A1 (in), 12 A0 (in), 13 DQ0 (io), 14 DQ1 (io), 15 DQ2 (io), 16 GND (power), 17 DQ3 (io), 18 DQ4 (io), 19 DQ5 (io), 20 DQ6 (io), 21 DQ7 (io), 22 ~{CE} (in), 23 A10 (in), 24 ~{OE} (in), 25 A11 (in), 26 A9 (in), 27 A8 (in), 28 A13 (in), 29 A14 (in), 30 A17 (in), 31 ~{WE} (in), 32 VCC (power)

## M29W040-150K5
designator U?
4 Mbit (512Kb x8, Uniform Block) Low-Voltage Single Supply Flash Memory; Published: 24-Aug-2001; LatestRevisionDate: 06-Jun-2005; LatestRevisionNote: Stylized 3D Model Added.; DatasheetVersion: Nov-1999; PackageVersion: Jun-1998; PackageReference: PLCC32; Publisher: Altium Limited; PackageDescription: Leaded Chip Carrier; 32 Leads; Body 11.5 x 14 mm; Code_JEDEC: MS-016-AE; Code_IPC: PLCC/R-32; ComponentLink1Description: Manufacturer Link; ComponentLink1URL: http://www.st.com/
footprint PLCC32 (Leaded Chip Carrier; 32 Leads; Body 11.5 x 14 mm)
3D model M29W040-PLCC32 (Leaded Chip Carrier; 32 Leads; Body 11.5 x 14 mm)
pins: 1 A18 (in), 2 A16 (in), 3 A15 (in), 4 A12 (in), 5 A7 (in), 6 A6 (in), 7 A5 (in), 8 A4 (in), 9 A3 (in), 10 A2 (in), 11 A1 (in), 12 A0 (in), 13 DQ0 (io), 14 DQ1 (io), 15 DQ2 (io), 16 GND (power), 17 DQ3 (io), 18 DQ4 (io), 19 DQ5 (io), 20 DQ6 (io), 21 DQ7 (io), 22 ~{CE} (in), 23 A10 (in), 24 ~{OE} (in), 25 A11 (in), 26 A9 (in), 27 A8 (in), 28 A13 (in), 29 A14 (in), 30 A17 (in), 31 ~{WE} (in), 32 VCC (power)

## M29W040-150K6
designator U?
4 Mbit (512Kb x8, Uniform Block) Low-Voltage Single Supply Flash Memory; Published: 24-Aug-2001; LatestRevisionDate: 06-Jun-2005; LatestRevisionNote: Stylized 3D Model Added.; DatasheetVersion: Nov-1999; PackageVersion: Jun-1998; PackageReference: PLCC32; Publisher: Altium Limited; PackageDescription: Leaded Chip Carrier; 32 Leads; Body 11.5 x 14 mm; Code_JEDEC: MS-016-AE; Code_IPC: PLCC/R-32; ComponentLink1Description: Manufacturer Link; ComponentLink1URL: http://www.st.com/
footprint PLCC32 (Leaded Chip Carrier; 32 Leads; Body 11.5 x 14 mm)
3D model M29W040-PLCC32 (Leaded Chip Carrier; 32 Leads; Body 11.5 x 14 mm)
pins: 1 A18 (in), 2 A16 (in), 3 A15 (in), 4 A12 (in), 5 A7 (in), 6 A6 (in), 7 A5 (in), 8 A4 (in), 9 A3 (in), 10 A2 (in), 11 A1 (in), 12 A0 (in), 13 DQ0 (io), 14 DQ1 (io), 15 DQ2 (io), 16 GND (power), 17 DQ3 (io), 18 DQ4 (io), 19 DQ5 (io), 20 DQ6 (io), 21 DQ7 (io), 22 ~{CE} (in), 23 A10 (in), 24 ~{OE} (in), 25 A11 (in), 26 A9 (in), 27 A8 (in), 28 A13 (in), 29 A14 (in), 30 A17 (in), 31 ~{WE} (in), 32 VCC (power)

## M29W040-150N1
designator U?
4 Mbit (512Kb x8, Uniform Block) Low-Voltage Single Supply Flash Memory; Published: 24-Aug-2001; LatestRevisionDate: 06-Jun-2005; LatestRevisionNote: Stylized 3D Model Added.; DatasheetVersion: Nov-1999; PackageVersion: Mar-1999; PackageReference: TSOP32; Publisher: Altium Limited; PackageDescription: Shrink Small Outline, Plastic, Thin; 32 Leads; Body Width 18.4 mm; Pitch 0.5 mm; Code_JEDEC: MO-142-BD; ComponentLink1Description: Manufacturer Link; ComponentLink1URL: http://www.st.com/
footprint TSOP32 (Shrink Small Outline, Plastic, Thin; 32 Leads; Body Width 18.4 mm; Pitch 0.5 mm)
3D model TSOP32 (Shrink Small Outline, Plastic, Thin; 32 Leads; Body Width 18.4 mm; Pitch 0.5 mm)
pins: 1 A11 (in), 2 A9 (in), 3 A8 (in), 4 A13 (in), 5 A14 (in), 6 A17 (in), 7 ~{WE} (in), 8 VCC (power), 9 A18 (in), 10 A16 (in), 11 A15 (in), 12 A12 (in), 13 A7 (in), 14 A6 (in), 15 A5 (in), 16 A4 (in), 17 A3 (in), 18 A2 (in), 19 A1 (in), 20 A0 (in), 21 DQ0 (io), 22 DQ1 (io), 23 DQ2 (io), 24 GND (power), 25 DQ3 (io), 26 DQ4 (io), 27 DQ5 (io), 28 DQ6 (io), 29 DQ7 (io), 30 ~{CE} (in), 31 A10 (in), 32 ~{OE} (in)

## M29W040-150N1R
designator U?
4 Mbit (512Kb x8, Uniform Block) Low-Voltage Single Supply Flash Memory; Published: 24-Aug-2001; LatestRevisionDate: 06-Jun-2005; LatestRevisionNote: Stylized 3D Model Added.; DatasheetVersion: Nov-1999; PackageVersion: Mar-1999; PackageReference: TSOP32; Publisher: Altium Limited; PackageDescription: Shrink Small Outline, Plastic, Thin; 32 Leads; Body Width 18.4 mm; Pitch 0.5 mm; Code_JEDEC: MO-142-BD; ComponentLink1Description: Manufacturer Link; ComponentLink1URL: http://www.st.com/
footprint TSOP32 (Shrink Small Outline, Plastic, Thin; 32 Leads; Body Width 18.4 mm; Pitch 0.5 mm)
3D model TSOP32 (Shrink Small Outline, Plastic, Thin; 32 Leads; Body Width 18.4 mm; Pitch 0.5 mm)
pins: 1 ~{OE} (in), 2 A10 (in), 3 ~{CE} (in), 4 DQ7 (io), 5 DQ6 (io), 6 DQ5 (io), 7 DQ4 (io), 8 DQ3 (io), 9 GND (power), 10 DQ2 (io), 11 DQ1 (io), 12 DQ0 (io), 13 A0 (in), 14 A1 (in), 15 A2 (in), 16 A3 (in), 17 A4 (in), 18 A5 (in), 19 A6 (in), 20 A7 (in), 21 A12 (in), 22 A15 (in), 23 A16 (in), 24 A18 (in), 25 VCC (power), 26 ~{WE} (in), 27 A17 (in), 28 A14 (in), 29 A13 (in), 30 A8 (in), 31 A9 (in), 32 A11 (in)

## M29W040-150N5
designator U?
4 Mbit (512Kb x8, Uniform Block) Low-Voltage Single Supply Flash Memory; Published: 24-Aug-2001; LatestRevisionDate: 06-Jun-2005; LatestRevisionNote: Stylized 3D Model Added.; DatasheetVersion: Nov-1999; PackageVersion: Mar-1999; PackageReference: TSOP32; Publisher: Altium Limited; PackageDescription: Shrink Small Outline, Plastic, Thin; 32 Leads; Body Width 18.4 mm; Pitch 0.5 mm; Code_JEDEC: MO-142-BD; ComponentLink1Description: Manufacturer Link; ComponentLink1URL: http://www.st.com/
footprint TSOP32 (Shrink Small Outline, Plastic, Thin; 32 Leads; Body Width 18.4 mm; Pitch 0.5 mm)
3D model TSOP32 (Shrink Small Outline, Plastic, Thin; 32 Leads; Body Width 18.4 mm; Pitch 0.5 mm)
pins: 1 A11 (in), 2 A9 (in), 3 A8 (in), 4 A13 (in), 5 A14 (in), 6 A17 (in), 7 ~{WE} (in), 8 VCC (power), 9 A18 (in), 10 A16 (in), 11 A15 (in), 12 A12 (in), 13 A7 (in), 14 A6 (in), 15 A5 (in), 16 A4 (in), 17 A3 (in), 18 A2 (in), 19 A1 (in), 20 A0 (in), 21 DQ0 (io), 22 DQ1 (io), 23 DQ2 (io), 24 GND (power), 25 DQ3 (io), 26 DQ4 (io), 27 DQ5 (io), 28 DQ6 (io), 29 DQ7 (io), 30 ~{CE} (in), 31 A10 (in), 32 ~{OE} (in)

## M29W040-150N5R
designator U?
4 Mbit (512Kb x8, Uniform Block) Low-Voltage Single Supply Flash Memory; Published: 24-Aug-2001; LatestRevisionDate: 06-Jun-2005; LatestRevisionNote: Stylized 3D Model Added.; DatasheetVersion: Nov-1999; PackageVersion: Mar-1999; PackageReference: TSOP32; Publisher: Altium Limited; PackageDescription: Shrink Small Outline, Plastic, Thin; 32 Leads; Body Width 18.4 mm; Pitch 0.5 mm; Code_JEDEC: MO-142-BD; ComponentLink1Description: Manufacturer Link; ComponentLink1URL: http://www.st.com/
footprint TSOP32 (Shrink Small Outline, Plastic, Thin; 32 Leads; Body Width 18.4 mm; Pitch 0.5 mm)
3D model TSOP32 (Shrink Small Outline, Plastic, Thin; 32 Leads; Body Width 18.4 mm; Pitch 0.5 mm)
pins: 1 ~{OE} (in), 2 A10 (in), 3 ~{CE} (in), 4 DQ7 (io), 5 DQ6 (io), 6 DQ5 (io), 7 DQ4 (io), 8 DQ3 (io), 9 GND (power), 10 DQ2 (io), 11 DQ1 (io), 12 DQ0 (io), 13 A0 (in), 14 A1 (in), 15 A2 (in), 16 A3 (in), 17 A4 (in), 18 A5 (in), 19 A6 (in), 20 A7 (in), 21 A12 (in), 22 A15 (in), 23 A16 (in), 24 A18 (in), 25 VCC (power), 26 ~{WE} (in), 27 A17 (in), 28 A14 (in), 29 A13 (in), 30 A8 (in), 31 A9 (in), 32 A11 (in)

## M29W040-150N6
designator U?
4 Mbit (512Kb x8, Uniform Block) Low-Voltage Single Supply Flash Memory; Published: 24-Aug-2001; LatestRevisionDate: 06-Jun-2005; LatestRevisionNote: Stylized 3D Model Added.; DatasheetVersion: Nov-1999; PackageVersion: Mar-1999; PackageReference: TSOP32; Publisher: Altium Limited; PackageDescription: Shrink Small Outline, Plastic, Thin; 32 Leads; Body Width 18.4 mm; Pitch 0.5 mm; Code_JEDEC: MO-142-BD; ComponentLink1Description: Manufacturer Link; ComponentLink1URL: http://www.st.com/
footprint TSOP32 (Shrink Small Outline, Plastic, Thin; 32 Leads; Body Width 18.4 mm; Pitch 0.5 mm)
3D model TSOP32 (Shrink Small Outline, Plastic, Thin; 32 Leads; Body Width 18.4 mm; Pitch 0.5 mm)
pins: 1 A11 (in), 2 A9 (in), 3 A8 (in), 4 A13 (in), 5 A14 (in), 6 A17 (in), 7 ~{WE} (in), 8 VCC (power), 9 A18 (in), 10 A16 (in), 11 A15 (in), 12 A12 (in), 13 A7 (in), 14 A6 (in), 15 A5 (in), 16 A4 (in), 17 A3 (in), 18 A2 (in), 19 A1 (in), 20 A0 (in), 21 DQ0 (io), 22 DQ1 (io), 23 DQ2 (io), 24 GND (power), 25 DQ3 (io), 26 DQ4 (io), 27 DQ5 (io), 28 DQ6 (io), 29 DQ7 (io), 30 ~{CE} (in), 31 A10 (in), 32 ~{OE} (in)

## M29W040-150N6R
designator U?
4 Mbit (512Kb x8, Uniform Block) Low-Voltage Single Supply Flash Memory; Published: 24-Aug-2001; LatestRevisionDate: 06-Jun-2005; LatestRevisionNote: Stylized 3D Model Added.; DatasheetVersion: Nov-1999; PackageVersion: Mar-1999; PackageReference: TSOP32; Publisher: Altium Limited; PackageDescription: Shrink Small Outline, Plastic, Thin; 32 Leads; Body Width 18.4 mm; Pitch 0.5 mm; Code_JEDEC: MO-142-BD; ComponentLink1Description: Manufacturer Link; ComponentLink1URL: http://www.st.com/
footprint TSOP32 (Shrink Small Outline, Plastic, Thin; 32 Leads; Body Width 18.4 mm; Pitch 0.5 mm)
3D model TSOP32 (Shrink Small Outline, Plastic, Thin; 32 Leads; Body Width 18.4 mm; Pitch 0.5 mm)
pins: 1 ~{OE} (in), 2 A10 (in), 3 ~{CE} (in), 4 DQ7 (io), 5 DQ6 (io), 6 DQ5 (io), 7 DQ4 (io), 8 DQ3 (io), 9 GND (power), 10 DQ2 (io), 11 DQ1 (io), 12 DQ0 (io), 13 A0 (in), 14 A1 (in), 15 A2 (in), 16 A3 (in), 17 A4 (in), 18 A5 (in), 19 A6 (in), 20 A7 (in), 21 A12 (in), 22 A15 (in), 23 A16 (in), 24 A18 (in), 25 VCC (power), 26 ~{WE} (in), 27 A17 (in), 28 A14 (in), 29 A13 (in), 30 A8 (in), 31 A9 (in), 32 A11 (in)

## M29W040-200K1
designator U?
4 Mbit (512Kb x8, Uniform Block) Low-Voltage Single Supply Flash Memory; Published: 24-Aug-2001; LatestRevisionDate: 06-Jun-2005; LatestRevisionNote: Stylized 3D Model Added.; DatasheetVersion: Nov-1999; PackageVersion: Jun-1998; PackageReference: PLCC32; Publisher: Altium Limited; PackageDescription: Leaded Chip Carrier; 32 Leads; Body 11.5 x 14 mm; Code_JEDEC: MS-016-AE; Code_IPC: PLCC/R-32; ComponentLink1Description: Manufacturer Link; ComponentLink1URL: http://www.st.com/
footprint PLCC32 (Leaded Chip Carrier; 32 Leads; Body 11.5 x 14 mm)
3D model M29W040-PLCC32 (Leaded Chip Carrier; 32 Leads; Body 11.5 x 14 mm)
pins: 1 A18 (in), 2 A16 (in), 3 A15 (in), 4 A12 (in), 5 A7 (in), 6 A6 (in), 7 A5 (in), 8 A4 (in), 9 A3 (in), 10 A2 (in), 11 A1 (in), 12 A0 (in), 13 DQ0 (io), 14 DQ1 (io), 15 DQ2 (io), 16 GND (power), 17 DQ3 (io), 18 DQ4 (io), 19 DQ5 (io), 20 DQ6 (io), 21 DQ7 (io), 22 ~{CE} (in), 23 A10 (in), 24 ~{OE} (in), 25 A11 (in), 26 A9 (in), 27 A8 (in), 28 A13 (in), 29 A14 (in), 30 A17 (in), 31 ~{WE} (in), 32 VCC (power)

## M29W040-200K5
designator U?
4 Mbit (512Kb x8, Uniform Block) Low-Voltage Single Supply Flash Memory; Published: 24-Aug-2001; LatestRevisionDate: 06-Jun-2005; LatestRevisionNote: Stylized 3D Model Added.; DatasheetVersion: Nov-1999; PackageVersion: Jun-1998; PackageReference: PLCC32; Publisher: Altium Limited; PackageDescription: Leaded Chip Carrier; 32 Leads; Body 11.5 x 14 mm; Code_JEDEC: MS-016-AE; Code_IPC: PLCC/R-32; ComponentLink1Description: Manufacturer Link; ComponentLink1URL: http://www.st.com/
footprint PLCC32 (Leaded Chip Carrier; 32 Leads; Body 11.5 x 14 mm)
3D model M29W040-PLCC32 (Leaded Chip Carrier; 32 Leads; Body 11.5 x 14 mm)
pins: 1 A18 (in), 2 A16 (in), 3 A15 (in), 4 A12 (in), 5 A7 (in), 6 A6 (in), 7 A5 (in), 8 A4 (in), 9 A3 (in), 10 A2 (in), 11 A1 (in), 12 A0 (in), 13 DQ0 (io), 14 DQ1 (io), 15 DQ2 (io), 16 GND (power), 17 DQ3 (io), 18 DQ4 (io), 19 DQ5 (io), 20 DQ6 (io), 21 DQ7 (io), 22 ~{CE} (in), 23 A10 (in), 24 ~{OE} (in), 25 A11 (in), 26 A9 (in), 27 A8 (in), 28 A13 (in), 29 A14 (in), 30 A17 (in), 31 ~{WE} (in), 32 VCC (power)

## M29W040-200K6
designator U?
4 Mbit (512Kb x8, Uniform Block) Low-Voltage Single Supply Flash Memory; Published: 24-Aug-2001; LatestRevisionDate: 06-Jun-2005; LatestRevisionNote: Stylized 3D Model Added.; DatasheetVersion: Nov-1999; PackageVersion: Jun-1998; PackageReference: PLCC32; Publisher: Altium Limited; PackageDescription: Leaded Chip Carrier; 32 Leads; Body 11.5 x 14 mm; Code_JEDEC: MS-016-AE; Code_IPC: PLCC/R-32; ComponentLink1Description: Manufacturer Link; ComponentLink1URL: http://www.st.com/
footprint PLCC32 (Leaded Chip Carrier; 32 Leads; Body 11.5 x 14 mm)
3D model M29W040-PLCC32 (Leaded Chip Carrier; 32 Leads; Body 11.5 x 14 mm)
pins: 1 A18 (in), 2 A16 (in), 3 A15 (in), 4 A12 (in), 5 A7 (in), 6 A6 (in), 7 A5 (in), 8 A4 (in), 9 A3 (in), 10 A2 (in), 11 A1 (in), 12 A0 (in), 13 DQ0 (io), 14 DQ1 (io), 15 DQ2 (io), 16 GND (power), 17 DQ3 (io), 18 DQ4 (io), 19 DQ5 (io), 20 DQ6 (io), 21 DQ7 (io), 22 ~{CE} (in), 23 A10 (in), 24 ~{OE} (in), 25 A11 (in), 26 A9 (in), 27 A8 (in), 28 A13 (in), 29 A14 (in), 30 A17 (in), 31 ~{WE} (in), 32 VCC (power)

## M29W040-200N1
designator U?
4 Mbit (512Kb x8, Uniform Block) Low-Voltage Single Supply Flash Memory; Published: 24-Aug-2001; LatestRevisionDate: 06-Jun-2005; LatestRevisionNote: Stylized 3D Model Added.; DatasheetVersion: Nov-1999; PackageVersion: Mar-1999; PackageReference: TSOP32; Publisher: Altium Limited; PackageDescription: Shrink Small Outline, Plastic, Thin; 32 Leads; Body Width 18.4 mm; Pitch 0.5 mm; Code_JEDEC: MO-142-BD; ComponentLink1Description: Manufacturer Link; ComponentLink1URL: http://www.st.com/
footprint TSOP32 (Shrink Small Outline, Plastic, Thin; 32 Leads; Body Width 18.4 mm; Pitch 0.5 mm)
3D model TSOP32 (Shrink Small Outline, Plastic, Thin; 32 Leads; Body Width 18.4 mm; Pitch 0.5 mm)
pins: 1 A11 (in), 2 A9 (in), 3 A8 (in), 4 A13 (in), 5 A14 (in), 6 A17 (in), 7 ~{WE} (in), 8 VCC (power), 9 A18 (in), 10 A16 (in), 11 A15 (in), 12 A12 (in), 13 A7 (in), 14 A6 (in), 15 A5 (in), 16 A4 (in), 17 A3 (in), 18 A2 (in), 19 A1 (in), 20 A0 (in), 21 DQ0 (io), 22 DQ1 (io), 23 DQ2 (io), 24 GND (power), 25 DQ3 (io), 26 DQ4 (io), 27 DQ5 (io), 28 DQ6 (io), 29 DQ7 (io), 30 ~{CE} (in), 31 A10 (in), 32 ~{OE} (in)

## M29W040-200N1R
designator U?
4 Mbit (512Kb x8, Uniform Block) Low-Voltage Single Supply Flash Memory; Published: 24-Aug-2001; LatestRevisionDate: 06-Jun-2005; LatestRevisionNote: Stylized 3D Model Added.; DatasheetVersion: Nov-1999; PackageVersion: Mar-1999; PackageReference: TSOP32; Publisher: Altium Limited; PackageDescription: Shrink Small Outline, Plastic, Thin; 32 Leads; Body Width 18.4 mm; Pitch 0.5 mm; Code_JEDEC: MO-142-BD; ComponentLink1Description: Manufacturer Link; ComponentLink1URL: http://www.st.com/
footprint TSOP32 (Shrink Small Outline, Plastic, Thin; 32 Leads; Body Width 18.4 mm; Pitch 0.5 mm)
3D model TSOP32 (Shrink Small Outline, Plastic, Thin; 32 Leads; Body Width 18.4 mm; Pitch 0.5 mm)
pins: 1 ~{OE} (in), 2 A10 (in), 3 ~{CE} (in), 4 DQ7 (io), 5 DQ6 (io), 6 DQ5 (io), 7 DQ4 (io), 8 DQ3 (io), 9 GND (power), 10 DQ2 (io), 11 DQ1 (io), 12 DQ0 (io), 13 A0 (in), 14 A1 (in), 15 A2 (in), 16 A3 (in), 17 A4 (in), 18 A5 (in), 19 A6 (in), 20 A7 (in), 21 A12 (in), 22 A15 (in), 23 A16 (in), 24 A18 (in), 25 VCC (power), 26 ~{WE} (in), 27 A17 (in), 28 A14 (in), 29 A13 (in), 30 A8 (in), 31 A9 (in), 32 A11 (in)

## M29W040-200N5
designator U?
4 Mbit (512Kb x8, Uniform Block) Low-Voltage Single Supply Flash Memory; Published: 24-Aug-2001; LatestRevisionDate: 06-Jun-2005; LatestRevisionNote: Stylized 3D Model Added.; DatasheetVersion: Nov-1999; PackageVersion: Mar-1999; PackageReference: TSOP32; Publisher: Altium Limited; PackageDescription: Shrink Small Outline, Plastic, Thin; 32 Leads; Body Width 18.4 mm; Pitch 0.5 mm; Code_JEDEC: MO-142-BD; ComponentLink1Description: Manufacturer Link; ComponentLink1URL: http://www.st.com/
footprint TSOP32 (Shrink Small Outline, Plastic, Thin; 32 Leads; Body Width 18.4 mm; Pitch 0.5 mm)
3D model TSOP32 (Shrink Small Outline, Plastic, Thin; 32 Leads; Body Width 18.4 mm; Pitch 0.5 mm)
pins: 1 A11 (in), 2 A9 (in), 3 A8 (in), 4 A13 (in), 5 A14 (in), 6 A17 (in), 7 ~{WE} (in), 8 VCC (power), 9 A18 (in), 10 A16 (in), 11 A15 (in), 12 A12 (in), 13 A7 (in), 14 A6 (in), 15 A5 (in), 16 A4 (in), 17 A3 (in), 18 A2 (in), 19 A1 (in), 20 A0 (in), 21 DQ0 (io), 22 DQ1 (io), 23 DQ2 (io), 24 GND (power), 25 DQ3 (io), 26 DQ4 (io), 27 DQ5 (io), 28 DQ6 (io), 29 DQ7 (io), 30 ~{CE} (in), 31 A10 (in), 32 ~{OE} (in)

## M29W040-200N5R
designator U?
4 Mbit (512Kb x8, Uniform Block) Low-Voltage Single Supply Flash Memory; Published: 24-Aug-2001; LatestRevisionDate: 06-Jun-2005; LatestRevisionNote: Stylized 3D Model Added.; DatasheetVersion: Nov-1999; PackageVersion: Mar-1999; PackageReference: TSOP32; Publisher: Altium Limited; PackageDescription: Shrink Small Outline, Plastic, Thin; 32 Leads; Body Width 18.4 mm; Pitch 0.5 mm; Code_JEDEC: MO-142-BD; ComponentLink1Description: Manufacturer Link; ComponentLink1URL: http://www.st.com/
footprint TSOP32 (Shrink Small Outline, Plastic, Thin; 32 Leads; Body Width 18.4 mm; Pitch 0.5 mm)
3D model TSOP32 (Shrink Small Outline, Plastic, Thin; 32 Leads; Body Width 18.4 mm; Pitch 0.5 mm)
pins: 1 ~{OE} (in), 2 A10 (in), 3 ~{CE} (in), 4 DQ7 (io), 5 DQ6 (io), 6 DQ5 (io), 7 DQ4 (io), 8 DQ3 (io), 9 GND (power), 10 DQ2 (io), 11 DQ1 (io), 12 DQ0 (io), 13 A0 (in), 14 A1 (in), 15 A2 (in), 16 A3 (in), 17 A4 (in), 18 A5 (in), 19 A6 (in), 20 A7 (in), 21 A12 (in), 22 A15 (in), 23 A16 (in), 24 A18 (in), 25 VCC (power), 26 ~{WE} (in), 27 A17 (in), 28 A14 (in), 29 A13 (in), 30 A8 (in), 31 A9 (in), 32 A11 (in)

## M29W040-200N6
designator U?
4 Mbit (512Kb x8, Uniform Block) Low-Voltage Single Supply Flash Memory; Published: 24-Aug-2001; LatestRevisionDate: 06-Jun-2005; LatestRevisionNote: Stylized 3D Model Added.; DatasheetVersion: Nov-1999; PackageVersion: Mar-1999; PackageReference: TSOP32; Publisher: Altium Limited; PackageDescription: Shrink Small Outline, Plastic, Thin; 32 Leads; Body Width 18.4 mm; Pitch 0.5 mm; Code_JEDEC: MO-142-BD; ComponentLink1Description: Manufacturer Link; ComponentLink1URL: http://www.st.com/
footprint TSOP32 (Shrink Small Outline, Plastic, Thin; 32 Leads; Body Width 18.4 mm; Pitch 0.5 mm)
3D model TSOP32 (Shrink Small Outline, Plastic, Thin; 32 Leads; Body Width 18.4 mm; Pitch 0.5 mm)
pins: 1 A11 (in), 2 A9 (in), 3 A8 (in), 4 A13 (in), 5 A14 (in), 6 A17 (in), 7 ~{WE} (in), 8 VCC (power), 9 A18 (in), 10 A16 (in), 11 A15 (in), 12 A12 (in), 13 A7 (in), 14 A6 (in), 15 A5 (in), 16 A4 (in), 17 A3 (in), 18 A2 (in), 19 A1 (in), 20 A0 (in), 21 DQ0 (io), 22 DQ1 (io), 23 DQ2 (io), 24 GND (power), 25 DQ3 (io), 26 DQ4 (io), 27 DQ5 (io), 28 DQ6 (io), 29 DQ7 (io), 30 ~{CE} (in), 31 A10 (in), 32 ~{OE} (in)

## M29W040-200N6R
designator U?
4 Mbit (512Kb x8, Uniform Block) Low-Voltage Single Supply Flash Memory; Published: 24-Aug-2001; LatestRevisionDate: 06-Jun-2005; LatestRevisionNote: Stylized 3D Model Added.; DatasheetVersion: Nov-1999; PackageVersion: Mar-1999; PackageReference: TSOP32; Publisher: Altium Limited; PackageDescription: Shrink Small Outline, Plastic, Thin; 32 Leads; Body Width 18.4 mm; Pitch 0.5 mm; Code_JEDEC: MO-142-BD; ComponentLink1Description: Manufacturer Link; ComponentLink1URL: http://www.st.com/
footprint TSOP32 (Shrink Small Outline, Plastic, Thin; 32 Leads; Body Width 18.4 mm; Pitch 0.5 mm)
3D model TSOP32 (Shrink Small Outline, Plastic, Thin; 32 Leads; Body Width 18.4 mm; Pitch 0.5 mm)
pins: 1 ~{OE} (in), 2 A10 (in), 3 ~{CE} (in), 4 DQ7 (io), 5 DQ6 (io), 6 DQ5 (io), 7 DQ4 (io), 8 DQ3 (io), 9 GND (power), 10 DQ2 (io), 11 DQ1 (io), 12 DQ0 (io), 13 A0 (in), 14 A1 (in), 15 A2 (in), 16 A3 (in), 17 A4 (in), 18 A5 (in), 19 A6 (in), 20 A7 (in), 21 A12 (in), 22 A15 (in), 23 A16 (in), 24 A18 (in), 25 VCC (power), 26 ~{WE} (in), 27 A17 (in), 28 A14 (in), 29 A13 (in), 30 A8 (in), 31 A9 (in), 32 A11 (in)